# EAGLE library part MAX11613 (library Maxim)
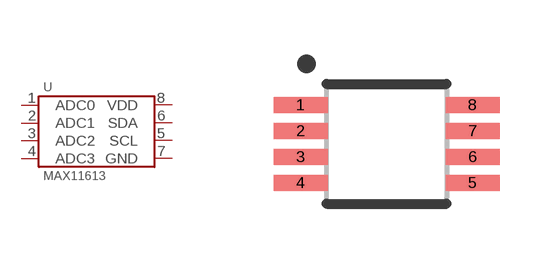
[diagram p3: symbol with the pads of MSOP-8; footprint MSOP-8]

Designator prefix U

## MAX11613EUA+  [MSOP-8]
1  ADC0
2  ADC1
3  ADC2
4  ADC3
5  SCL
6  SDA
7  GND
8  VDD

## Footprint MSOP-8 (pad centres in mm)
smd 1.35 x 0.4: 1 -2.15,0.975; 2 -2.15,0.325; 3 -2.15,-0.325; 4 -2.15,-0.975; 5 2.15,-0.975; 6 2.15,-0.325; 7 2.15,0.325; 8 2.15,0.975